# Altium integrated library Linear Technology Power Management uModule Regulators.IntLib: 166 symbols (part 45 of 67)
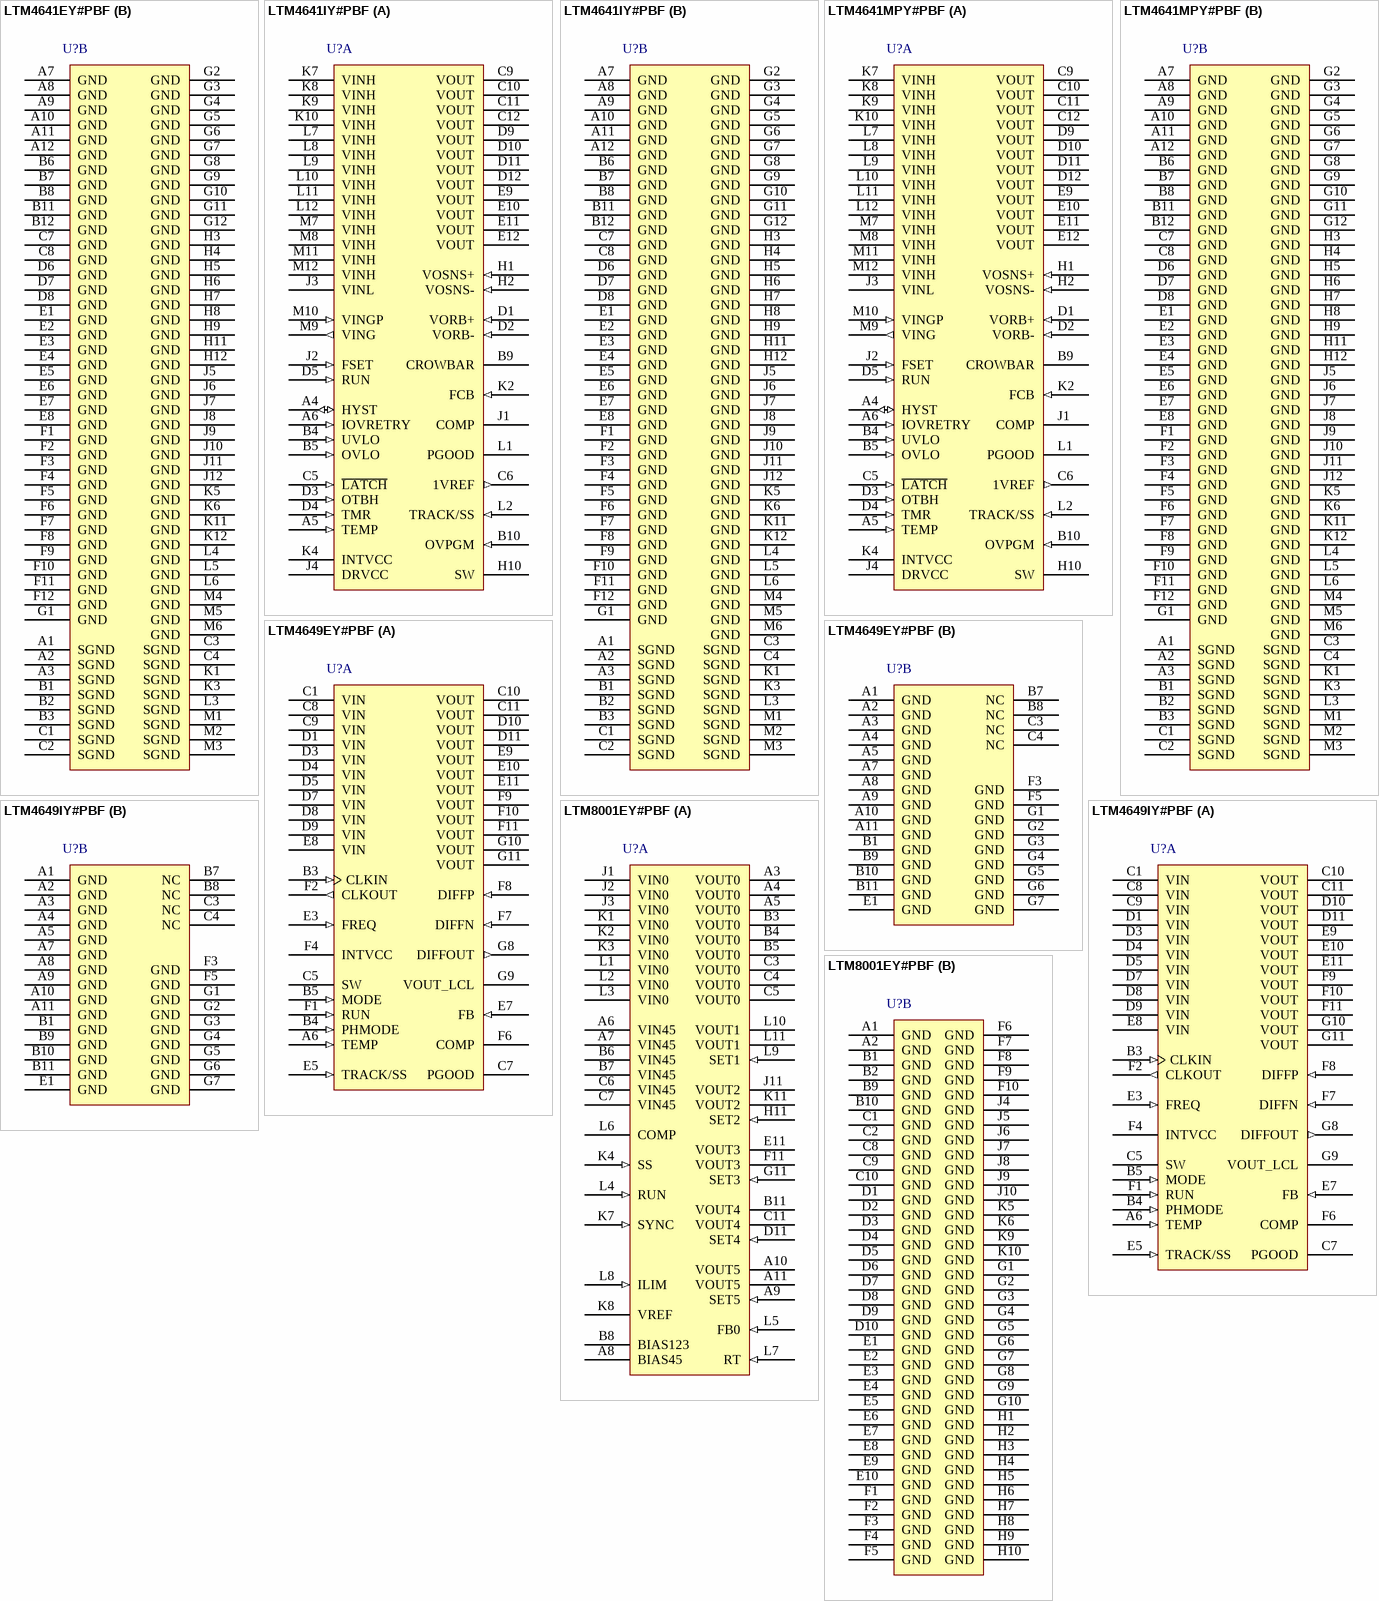
[diagram p71: symbols LTM4641EY#PBF to LTM8001EY#PBF]

## LTM4641MPY#PBF
designator U?
38 V, 10 A DC/DC uModule Regulator with Advanced Input and Load Protection, 144-pin BGA, -55 to 125 degC, Pb-Free, Tray; Manufacturer: Linear Technology; PartNumber: LTM4641MPY#PBF; Extended Temp: E, I, MP; Ishutdown(uA): 200; Isupply(mA): 14.5; Number of Outputs: 1; Output Current(A): 10; Switch Current(A): 15; Synchronous: yes; Topology: Buck; Vin Max(V): 38; Vin Min(V): 4.5; Vout Max(V): 6; Vout Min(V): 0.6; DatasheetVersion: Rev. C; PackageVersion: Rev. A, 01/2013; PackageReference: BGA-144; PackageDescription: 144-Ball BGA, Body 15 x15 mm, Pitch 1.27 mm; Supplier 1: Digi-Key; Supplier Part Number 1: LTM4641MPY#PBF-ND; Supplier 2: Newark; Supplier Part Number 2: 48W6443; Packing: Tray; RoHS: TRUE; Tracking: yes; Mounting Technology: Surface Mount; Code_JEDEC: MS-028; ComponentLink1Description: Manufacturer URL; ComponentLink1URL: http://www.linear.com/; ComponentLink2Description: Datasheet; ComponentLink2URL: http://cds.linear.com/docs/en/datasheet/4641fc.pdf; ComponentLink3Description: Package Specification; ComponentLink3URL: http://cds.linear.com/docs/en/packaging/05081914_A_bga144.pdf
footprint LT-BGA-144-05-08-1914 (BGA, 144-Balls, Body 15x15mm, Pitch 1.27mm)
part A pins: A4 HYST (io) "Input Undervoltage Hysteresis Programming Pin. Normally used as an output, but can be used as an input. If the LTM4641’s inherent, default undervoltage lockout (UVLO) settings are satisfactory, 4.5VIN(RISING, MAX) an(See Datasheet)", A5 TEMP (in) "Power Stage Temperature Indicator and Overtemperature Detection Pin. When left electrically open circuit, TEMP’s voltage varies according to an internal NTC (negative temperature coefficient) thermistor, residing in clos(See Datasheet)", A6 IOVRETRY (in) "Nonlatching Input Overvoltage Threshold Programming Pin. The LTM4641 pulls HYST low to inhibit regulation of its output voltage when IOVRETRY exceeds 0.5V. The LTM4641 can resume switching action when IOVRETRY is below 0.5V. (See Datasheet)", B4 UVLO (in) "Input Undervoltage Lockout Programming Pin. The LTM4641 pulls HYST low to inhibit regulation of its output voltage whenever UVLO is less than 0.5V. The LTM4641 can resume switching action when UVLO exceeds 0.5V. Do not leave (See Datasheet)", B5 OVLO (in) "Input Overvoltage Latchoff Programming Pin. LTM4641 pulls HYST low to inhibit regulation of its output voltage when OVLO exceeds 0.5V. If OVLO subsequently falls below 0.5V, the module’s output remains latched off; th(See Datasheet)", B9 CROWBAR (hiz) "Crowbar Output Pin. Normally logic low, with moderate pull-down strength to SGND.", B10 OVPGM (in) "Output Overvoltage Threshold Programming Pin. The voltage on this pin sets the trip threshold for the inverting input pin of LTM4641’s fast OOV comparator. When left electrically open circuit, resistors internal to th(See Datasheet)", C5 ~{LATCH} (in) "Latchoff Reset Pin. When a latchoff fault occurs, the LTM4641 turns off its output and latches MHYST on to indicate a fault condition has occurred (see HYST). To configure the LTM4641 for latched off response to latchoff (See Datasheet)", C6 1VREF (out) "Buffered 1V Reference Output Pin. Minimize capacitance on this pin, to assure the OVPGM and TEMP pins are operational in a timely manner at power-up. 1VREF should never be externally loaded except as explained in the (See Datasheet)", C9 VOUT (power) "Power Output Pins of the LTM4641 DC/DC Converter Power Stage. All VOUT pins are electrically connected to each other, internally. Apply output load between these pins and the GND pins. It is recommended to place output (See Datasheet)", C10 VOUT (power) "Power Output Pins of the LTM4641 DC/DC Converter Power Stage. All VOUT pins are electrically connected to each other, internally. Apply output load between these pins and the GND pins. It is recommended to place output (See Datasheet)", C11 VOUT (power) "Power Output Pins of the LTM4641 DC/DC Converter Power Stage. All VOUT pins are electrically connected to each other, internally. Apply output load between these pins and the GND pins. It is recommended to place output (See Datasheet)", C12 VOUT (power) "Power Output Pins of the LTM4641 DC/DC Converter Power Stage. All VOUT pins are electrically connected to each other, internally. Apply output load between these pins and the GND pins. It is recommended to place output (See Datasheet)", D1 VORB+ (in) "VOSNS + Readback Pin. This pin connects to VOSNS + internal to the uModule regulator. It is recommended to route this pin (differentially with VORB -) to a test point so as to allow the user a way to confirm the integrity of (See Datasheet)", D2 VORB- (in) "VOSNS - Readback Pin. This pin connects to VOSNS - internal to the uModule regulator. It is recommended to route this pin (differentially with VORB +) to a test point so as to allow the user a way to confirm the integrity of (See Datasheet)", D3 OTBH (in) "Overtemperature Behavior Programming Pin. When an overtemperature condition is detected (see TEMP), HYST pulls logic low to inhibit switching. If OTBH is connected to SGND, the LTM4641 latches HYST low. If OTBH is left (See Datasheet)", D4 TMR (in) "Timeout Delay Timer and Power-On Reset (POR) Programming Pin. Connect a capacitor (CTMR) from TMR to SGND to program the POR and timeout delay time of the LTM4641; 9ms delay time per nanofarad of capacitance. The minimum (See Datasheet)", D5 RUN (in) "Run (On/Off) Control Pin. A RUN pin voltage below 0.8V will turn off the module. A voltage above 2V will command the module to turn on, if HYST is not asserted low by MHYST. The LTM4641 contains a moderate (10k) pull-up (See Datasheet)", D9 VOUT (power) "Power Output Pins of the LTM4641 DC/DC Converter Power Stage. All VOUT pins are electrically connected to each other, internally. Apply output load between these pins and the GND pins. It is recommended to place output (See Datasheet)", D10 VOUT (power) "Power Output Pins of the LTM4641 DC/DC Converter Power Stage. All VOUT pins are electrically connected to each other, internally. Apply output load between these pins and the GND pins. It is recommended to place output (See Datasheet)", D11 VOUT (power) "Power Output Pins of the LTM4641 DC/DC Converter Power Stage. All VOUT pins are electrically connected to each other, internally. Apply output load between these pins and the GND pins. It is recommended to place output (See Datasheet)", D12 VOUT (power) "Power Output Pins of the LTM4641 DC/DC Converter Power Stage. All VOUT pins are electrically connected to each other, internally. Apply output load between these pins and the GND pins. It is recommended to place output (See Datasheet)", E9 VOUT (power) "Power Output Pins of the LTM4641 DC/DC Converter Power Stage. All VOUT pins are electrically connected to each other, internally. Apply output load between these pins and the GND pins. It is recommended to place output (See Datasheet)", E10 VOUT (power) "Power Output Pins of the LTM4641 DC/DC Converter Power Stage. All VOUT pins are electrically connected to each other, internally. Apply output load between these pins and the GND pins. It is recommended to place output (See Datasheet)", E11 VOUT (power) "Power Output Pins of the LTM4641 DC/DC Converter Power Stage. All VOUT pins are electrically connected to each other, internally. Apply output load between these pins and the GND pins. It is recommended to place output (See Datasheet)", E12 VOUT (power) "Power Output Pins of the LTM4641 DC/DC Converter Power Stage. All VOUT pins are electrically connected to each other, internally. Apply output load between these pins and the GND pins. It is recommended to place output (See Datasheet)", H1 VOSNS+ (in) "Positive Input to the Remote Sense Differential Amplifier. This pin connects to the positive side of the output voltage remote sense point (VOUT potential) via a resistor (RSET1A). When regulating the output voltage, the (See Datasheet)", H2 VOSNS- (in) "Negative Input to the Remote Sense Differential Amplifier. This pin connects to the negative side of the output voltage remote sense point (GND potential) via a resistor (RSET1B). When switching action is on, the LTM4641 (See Datasheet)", H10 SW "Switching Node of the Power Stage. Mainly used for testing purposes, however, one may optionally connect a snubber (series-configured capacitor CSW and resistor RSW) from SW to GND to reduce radiated EMI-in exchange for a (See Datasheet)", J1 COMP "Current Control Threshold and Error Amplifier Compensation Point. The current comparator threshold of LTM4641’s valley current mode control loop-and correspondingly, the commanded trough of the power inducto(See Datasheet)", J2 FSET (in) "Switching Frequency Setting and Adjustment Pin. This pin interfaces directly to the ION pin of LTM4641’s internal control IC. Current flow into the ION pin programs the on-time of the control loop’s one-shot timer (See Datasheet)", J3 VINL (power) "Input Voltage Pin, Low Current for Power Control and Logic Bias. Feeds LTM4641’s internal 5.3V LDO (see INTVCC). Apply input voltage bias between this pin and GND. Decouple to GND with a capacitor (0.1uF to 1uF). This pi(See Datasheet)", J4 DRVCC (power) "Power MOSFET Driver Input Power Pin. DRVCC is normally connected to INTVCC. It must be kept within two diode drops (2 x VBE or ~1.2V at 25degreesC) of INTVCC. DRVCC powers the internal MOSFET driver that interfaces to the (See Datasheet)", K2 FCB (in) "Forced Continuous/Pulse-Skipping Mode Operation Programming Pin. Connect this pin to SGND to force continuous mode operation of the synchronous power MOSFETs (MTOP and MBOT) at all output load conditions. Connect this pin to (See Datasheet)", K4 INTVCC (power) "Internal 5.3V LDO Output. LDO operates off of VINL. The INTVCC rail biases low power control and housekeeping circuitry. INTVCC is usually connected to DRVCC to power the MOSFET drivers interfacing to the switching power (See Datasheet)", K7 VINH (power) "Input Voltage Pin, High Current to the Power Converter Stage of the LTM4641. All VINH pins are electrically connected to each other internally. Devote a large copper plane to connect as many of the VINH pins to each other as (See Datasheet)", K8 VINH (power) "Input Voltage Pin, High Current to the Power Converter Stage of the LTM4641. All VINH pins are electrically connected to each other internally. Devote a large copper plane to connect as many of the VINH pins to each other as (See Datasheet)", K9 VINH (power) "Input Voltage Pin, High Current to the Power Converter Stage of the LTM4641. All VINH pins are electrically connected to each other internally. Devote a large copper plane to connect as many of the VINH pins to each other as (See Datasheet)", K10 VINH (power) "Input Voltage Pin, High Current to the Power Converter Stage of the LTM4641. All VINH pins are electrically connected to each other internally. Devote a large copper plane to connect as many of the VINH pins to each other as (See Datasheet)", L1 PGOOD (oc) "Output Voltage Power Good Indicator. This is an open-drain logic output pin that is pulled to ground when the output voltage (and accordingly, the divided-down representation of the output voltage, VFB, as presented to the (See Datasheet)", L2 TRACK/SS (in) "Output Voltage Tracking and Soft-Start SGND to obtain an output voltage soft-start ramp-up rate whose turn-on time is 0.6ms per nanofarad of capacitance. Alternatively, when a voltage is applied to TRACK/SS through a (See Datasheet)", L7 VINH (power) "Input Voltage Pin, High Current to the Power Converter Stage of the LTM4641. All VINH pins are electrically connected to each other internally. Devote a large copper plane to connect as many of the VINH pins to each other as (See Datasheet)", L8 VINH (power) "Input Voltage Pin, High Current to the Power Converter Stage of the LTM4641. All VINH pins are electrically connected to each other internally. Devote a large copper plane to connect as many of the VINH pins to each other as (See Datasheet)", L9 VINH (power) "Input Voltage Pin, High Current to the Power Converter Stage of the LTM4641. All VINH pins are electrically connected to each other internally. Devote a large copper plane to connect as many of the VINH pins to each other as (See Datasheet)", L10 VINH (power) "Input Voltage Pin, High Current to the Power Converter Stage of the LTM4641. All VINH pins are electrically connected to each other internally. Devote a large copper plane to connect as many of the VINH pins to each other as (See Datasheet)", L11 VINH (power) "Input Voltage Pin, High Current to the Power Converter Stage of the LTM4641. All VINH pins are electrically connected to each other internally. Devote a large copper plane to connect as many of the VINH pins to each other as (See Datasheet)", L12 VINH (power) "Input Voltage Pin, High Current to the Power Converter Stage of the LTM4641. All VINH pins are electrically connected to each other internally. Devote a large copper plane to connect as many of the VINH pins to each other as (See Datasheet)", M7 VINH (power) "Input Voltage Pin, High Current to the Power Converter Stage of the LTM4641. All VINH pins are electrically connected to each other internally. Devote a large copper plane to connect as many of the VINH pins to each other as (See Datasheet)", M8 VINH (power) "Input Voltage Pin, High Current to the Power Converter Stage of the LTM4641. All VINH pins are electrically connected to each other internally. Devote a large copper plane to connect as many of the VINH pins to each other as (See Datasheet)", M9 VING (out) "Gate Drive Output Pin. If utilizing the advanced output overvoltage (OOV) protection features of the LTM4641, connect VING to VINGP and to the gate of the external power-interrupt N-channel MOSFET feeding VINH, identified on (See Datasheet)", M10 VINGP (in) "Gate Drive Protection Pin. If utilizing the advanced OOV protection features of the LTM4641, connect VINGP to VING and to the gate of the external power-interrupt N-channel MOSFET feeding VINH, MSP; otherwise, leave this pin (See Datasheet)", M11 VINH (power) "Input Voltage Pin, High Current to the Power Converter Stage of the LTM4641. All VINH pins are electrically connected to each other internally. Devote a large copper plane to connect as many of the VINH pins to each other as (See Datasheet)", M12 VINH (power) "Input Voltage Pin, High Current to the Power Converter Stage of the LTM4641. All VINH pins are electrically connected to each other internally. Devote a large copper plane to connect as many of the VINH pins to each other as (See Datasheet)"
part B pins: A1 SGND (power) "Signal Ground Pins. This is the return ground path for all analog control and low power circuitry. SGND is tied to GND internal to the uModule regulator in a manner that promotes the best internal signal integrity-therefore, (See Datasheet)", A2 SGND (power) "Signal Ground Pins. This is the return ground path for all analog control and low power circuitry. SGND is tied to GND internal to the uModule regulator in a manner that promotes the best internal signal integrity-therefore, (See Datasheet)", A3 SGND (power) "Signal Ground Pins. This is the return ground path for all analog control and low power circuitry. SGND is tied to GND internal to the uModule regulator in a manner that promotes the best internal signal integrity-therefore, (See Datasheet)", A7 GND (power) "Power ground pins for input and output returns. See the Layout Checklist/Example section of the Applications Information section. All GND pins are electrically connected to each other, internally.", A8 GND (power) "Power ground pins for input and output returns. See the Layout Checklist/Example section of the Applications Information section. All GND pins are electrically connected to each other, internally.", A9 GND (power) "Power ground pins for input and output returns. See the Layout Checklist/Example section of the Applications Information section. All GND pins are electrically connected to each other, internally.", A10 GND (power) "Power ground pins for input and output returns. See the Layout Checklist/Example section of the Applications Information section. All GND pins are electrically connected to each other, internally.", A11 GND (power) "Power ground pins for input and output returns. See the Layout Checklist/Example section of the Applications Information section. All GND pins are electrically connected to each other, internally.", A12 GND (power) "Power ground pins for input and output returns. See the Layout Checklist/Example section of the Applications Information section. All GND pins are electrically connected to each other, internally.", B1 SGND (power) "Signal Ground Pins. This is the return ground path for all analog control and low power circuitry. SGND is tied to GND internal to the uModule regulator in a manner that promotes the best internal signal integrity-therefore, (See Datasheet)", B2 SGND (power) "Signal Ground Pins. This is the return ground path for all analog control and low power circuitry. SGND is tied to GND internal to the uModule regulator in a manner that promotes the best internal signal integrity-therefore, (See Datasheet)", B3 SGND (power) "Signal Ground Pins. This is the return ground path for all analog control and low power circuitry. SGND is tied to GND internal to the uModule regulator in a manner that promotes the best internal signal integrity-therefore, (See Datasheet)", B6 GND (power) "Power ground pins for input and output returns. See the Layout Checklist/Example section of the Applications Information section. All GND pins are electrically connected to each other, internally.", B7 GND (power) "Power ground pins for input and output returns. See the Layout Checklist/Example section of the Applications Information section. All GND pins are electrically connected to each other, internally.", B8 GND (power) "Power ground pins for input and output returns. See the Layout Checklist/Example section of the Applications Information section. All GND pins are electrically connected to each other, internally.", B11 GND (power) "Power ground pins for input and output returns. See the Layout Checklist/Example section of the Applications Information section. All GND pins are electrically connected to each other, internally.", B12 GND (power) "Power ground pins for input and output returns. See the Layout Checklist/Example section of the Applications Information section. All GND pins are electrically connected to each other, internally.", C1 SGND (power) "Signal Ground Pins. This is the return ground path for all analog control and low power circuitry. SGND is tied to GND internal to the uModule regulator in a manner that promotes the best internal signal integrity-therefore, (See Datasheet)", C2 SGND (power) "Signal Ground Pins. This is the return ground path for all analog control and low power circuitry. SGND is tied to GND internal to the uModule regulator in a manner that promotes the best internal signal integrity-therefore, (See Datasheet)", C3 SGND (power) "Signal Ground Pins. This is the return ground path for all analog control and low power circuitry. SGND is tied to GND internal to the uModule regulator in a manner that promotes the best internal signal integrity-therefore, (See Datasheet)", C4 SGND (power) "Signal Ground Pins. This is the return ground path for all analog control and low power circuitry. SGND is tied to GND internal to the uModule regulator in a manner that promotes the best internal signal integrity-therefore, (See Datasheet)", C7 GND (power) "Power ground pins for input and output returns. See the Layout Checklist/Example section of the Applications Information section. All GND pins are electrically connected to each other, internally.", C8 GND (power) "Power ground pins for input and output returns. See the Layout Checklist/Example section of the Applications Information section. All GND pins are electrically connected to each other, internally.", D6 GND (power) "Power ground pins for input and output returns. See the Layout Checklist/Example section of the Applications Information section. All GND pins are electrically connected to each other, internally.", D7 GND (power) "Power ground pins for input and output returns. See the Layout Checklist/Example section of the Applications Information section. All GND pins are electrically connected to each other, internally.", D8 GND (power) "Power ground pins for input and output returns. See the Layout Checklist/Example section of the Applications Information section. All GND pins are electrically connected to each other, internally.", E1 GND (power) "Power ground pins for input and output returns. See the Layout Checklist/Example section of the Applications Information section. All GND pins are electrically connected to each other, internally.", E2 GND (power) "Power ground pins for input and output returns. See the Layout Checklist/Example section of the Applications Information section. All GND pins are electrically connected to each other, internally.", E3 GND (power) "Power ground pins for input and output returns. See the Layout Checklist/Example section of the Applications Information section. All GND pins are electrically connected to each other, internally.", E4 GND (power) "Power ground pins for input and output returns. See the Layout Checklist/Example section of the Applications Information section. All GND pins are electrically connected to each other, internally.", E5 GND (power) "Power ground pins for input and output returns. See the Layout Checklist/Example section of the Applications Information section. All GND pins are electrically connected to each other, internally.", E6 GND (power) "Power ground pins for input and output returns. See the Layout Checklist/Example section of the Applications Information section. All GND pins are electrically connected to each other, internally.", E7 GND (power) "Power ground pins for input and output returns. See the Layout Checklist/Example section of the Applications Information section. All GND pins are electrically connected to each other, internally.", E8 GND (power) "Power ground pins for input and output returns. See the Layout Checklist/Example section of the Applications Information section. All GND pins are electrically connected to each other, internally.", F1 GND (power) "Power ground pins for input and output returns. See the Layout Checklist/Example section of the Applications Information section. All GND pins are electrically connected to each other, internally.", F2 GND (power) "Power ground pins for input and output returns. See the Layout Checklist/Example section of the Applications Information section. All GND pins are electrically connected to each other, internally.", F3 GND (power) "Power ground pins for input and output returns. See the Layout Checklist/Example section of the Applications Information section. All GND pins are electrically connected to each other, internally.", F4 GND (power) "Power ground pins for input and output returns. See the Layout Checklist/Example section of the Applications Information section. All GND pins are electrically connected to each other, internally.", F5 GND (power) "Power ground pins for input and output returns. See the Layout Checklist/Example section of the Applications Information section. All GND pins are electrically connected to each other, internally.", F6 GND (power) "Power ground pins for input and output returns. See the Layout Checklist/Example section of the Applications Information section. All GND pins are electrically connected to each other, internally.", F7 GND (power) "Power ground pins for input and output returns. See the Layout Checklist/Example section of the Applications Information section. All GND pins are electrically connected to each other, internally.", F8 GND (power) "Power ground pins for input and output returns. See the Layout Checklist/Example section of the Applications Information section. All GND pins are electrically connected to each other, internally.", F9 GND (power) "Power ground pins for input and output returns. See the Layout Checklist/Example section of the Applications Information section. All GND pins are electrically connected to each other, internally.", F10 GND (power) "Power ground pins for input and output returns. See the Layout Checklist/Example section of the Applications Information section. All GND pins are electrically connected to each other, internally.", F11 GND (power) "Power ground pins for input and output returns. See the Layout Checklist/Example section of the Applications Information section. All GND pins are electrically connected to each other, internally.", F12 GND (power) "Power ground pins for input and output returns. See the Layout Checklist/Example section of the Applications Information section. All GND pins are electrically connected to each other, internally.", G1 GND (power) "Power ground pins for input and output returns. See the Layout Checklist/Example section of the Applications Information section. All GND pins are electrically connected to each other, internally.", G2 GND (power) "Power ground pins for input and output returns. See the Layout Checklist/Example section of the Applications Information section. All GND pins are electrically connected to each other, internally.", G3 GND (power) "Power ground pins for input and output returns. See the Layout Checklist/Example section of the Applications Information section. All GND pins are electrically connected to each other, internally.", G4 GND (power) "Power ground pins for input and output returns. See the Layout Checklist/Example section of the Applications Information section. All GND pins are electrically connected to each other, internally.", G5 GND (power) "Power ground pins for input and output returns. See the Layout Checklist/Example section of the Applications Information section. All GND pins are electrically connected to each other, internally.", G6 GND (power) "Power ground pins for input and output returns. See the Layout Checklist/Example section of the Applications Information section. All GND pins are electrically connected to each other, internally.", G7 GND (power) "Power ground pins for input and output returns. See the Layout Checklist/Example section of the Applications Information section. All GND pins are electrically connected to each other, internally.", G8 GND (power) "Power ground pins for input and output returns. See the Layout Checklist/Example section of the Applications Information section. All GND pins are electrically connected to each other, internally.", G9 GND (power) "Power ground pins for input and output returns. See the Layout Checklist/Example section of the Applications Information section. All GND pins are electrically connected to each other, internally.", G10 GND (power) "Power ground pins for input and output returns. See the Layout Checklist/Example section of the Applications Information section. All GND pins are electrically connected to each other, internally.", G11 GND (power) "Power ground pins for input and output returns. See the Layout Checklist/Example section of the Applications Information section. All GND pins are electrically connected to each other, internally.", G12 GND (power) "Power ground pins for input and output returns. See the Layout Checklist/Example section of the Applications Information section. All GND pins are electrically connected to each other, internally.", H3 GND (power) "Power ground pins for input and output returns. See the Layout Checklist/Example section of the Applications Information section. All GND pins are electrically connected to each other, internally.", H4 GND (power) "Power ground pins for input and output returns. See the Layout Checklist/Example section of the Applications Information section. All GND pins are electrically connected to each other, internally.", H5 GND (power) "Power ground pins for input and output returns. See the Layout Checklist/Example section of the Applications Information section. All GND pins are electrically connected to each other, internally.", H6 GND (power) "Power ground pins for input and output returns. See the Layout Checklist/Example section of the Applications Information section. All GND pins are electrically connected to each other, internally.", H7 GND (power) "Power ground pins for input and output returns. See the Layout Checklist/Example section of the Applications Information section. All GND pins are electrically connected to each other, internally.", H8 GND (power) "Power ground pins for input and output returns. See the Layout Checklist/Example section of the Applications Information section. All GND pins are electrically connected to each other, internally.", H9 GND (power) "Power ground pins for input and output returns. See the Layout Checklist/Example section of the Applications Information section. All GND pins are electrically connected to each other, internally.", H11 GND (power) "Power ground pins for input and output returns. See the Layout Checklist/Example section of the Applications Information section. All GND pins are electrically connected to each other, internally.", H12 GND (power) "Power ground pins for input and output returns. See the Layout Checklist/Example section of the Applications Information section. All GND pins are electrically connected to each other, internally.", J5 GND (power) "Power ground pins for input and output returns. See the Layout Checklist/Example section of the Applications Information section. All GND pins are electrically connected to each other, internally.", J6 GND (power) "Power ground pins for input and output returns. See the Layout Checklist/Example section of the Applications Information section. All GND pins are electrically connected to each other, internally.", J7 GND (power) "Power ground pins for input and output returns. See the Layout Checklist/Example section of the Applications Information section. All GND pins are electrically connected to each other, internally.", J8 GND (power) "Power ground pins for input and output returns. See the Layout Checklist/Example section of the Applications Information section. All GND pins are electrically connected to each other, internally.", J9 GND (power) "Power ground pins for input and output returns. See the Layout Checklist/Example section of the Applications Information section. All GND pins are electrically connected to each other, internally.", J10 GND (power) "Power ground pins for input and output returns. See the Layout Checklist/Example section of the Applications Information section. All GND pins are electrically connected to each other, internally.", J11 GND (power) "Power ground pins for input and output returns. See the Layout Checklist/Example section of the Applications Information section. All GND pins are electrically connected to each other, internally.", J12 GND (power) "Power ground pins for input and output returns. See the Layout Checklist/Example section of the Applications Information section. All GND pins are electrically connected to each other, internally.", K1 SGND (power) "Signal Ground Pins. This is the return ground path for all analog control and low power circuitry. SGND is tied to GND internal to the uModule regulator in a manner that promotes the best internal signal integrity-therefore, (See Datasheet)", K3 SGND (power) "Signal Ground Pins. This is the return ground path for all analog control and low power circuitry. SGND is tied to GND internal to the uModule regulator in a manner that promotes the best internal signal integrity-therefore, (See Datasheet)", K5 GND (power) "Power ground pins for input and output returns. See the Layout Checklist/Example section of the Applications Information section. All GND pins are electrically connected to each other, internally.", K6 GND (power) "Power ground pins for input and output returns. See the Layout Checklist/Example section of the Applications Information section. All GND pins are electrically connected to each other, internally.", K11 GND (power) "Power ground pins for input and output returns. See the Layout Checklist/Example section of the Applications Information section. All GND pins are electrically connected to each other, internally.", K12 GND (power) "Power ground pins for input and output returns. See the Layout Checklist/Example section of the Applications Information section. All GND pins are electrically connected to each other, internally.", L3 SGND (power) "Signal Ground Pins. This is the return ground path for all analog control and low power circuitry. SGND is tied to GND internal to the uModule regulator in a manner that promotes the best internal signal integrity-therefore, (See Datasheet)", L4 GND (power) "Power ground pins for input and output returns. See the Layout Checklist/Example section of the Applications Information section. All GND pins are electrically connected to each other, internally.", L5 GND (power) "Power ground pins for input and output returns. See the Layout Checklist/Example section of the Applications Information section. All GND pins are electrically connected to each other, internally.", L6 GND (power) "Power ground pins for input and output returns. See the Layout Checklist/Example section of the Applications Information section. All GND pins are electrically connected to each other, internally.", M1 SGND (power) "Signal Ground Pins. This is the return ground path for all analog control and low power circuitry. SGND is tied to GND internal to the uModule regulator in a manner that promotes the best internal signal integrity-therefore, (See Datasheet)", M2 SGND (power) "Signal Ground Pins. This is the return ground path for all analog control and low power circuitry. SGND is tied to GND internal to the uModule regulator in a manner that promotes the best internal signal integrity-therefore, (See Datasheet)", M3 SGND (power) "Signal Ground Pins. This is the return ground path for all analog control and low power circuitry. SGND is tied to GND internal to the uModule regulator in a manner that promotes the best internal signal integrity-therefore, (See Datasheet)", M4 GND (power) "Power ground pins for input and output returns. See the Layout Checklist/Example section of the Applications Information section. All GND pins are electrically connected to each other, internally.", M5 GND (power) "Power ground pins for input and output returns. See the Layout Checklist/Example section of the Applications Information section. All GND pins are electrically connected to each other, internally.", M6 GND (power) "Power ground pins for input and output returns. See the Layout Checklist/Example section of the Applications Information section. All GND pins are electrically connected to each other, internally."

## LTM4649EY#PBF
designator U?
10 A Step-Down DC/DC uModule Regulator, 68-pin BGA, -40 to 125 degC, Pb-Free, Tray; Manufacturer: Linear Technology; PartNumber: LTM4649EY#PBF; Extended Temp: E, I; Frequency Sync Range: 250kHz - 800kHz; Frequency(kHz): 450; Ishutdown(uA): 70; Isupply(mA): 5; Number of Outputs: 1; Output Current(A): 10; Synchronous: yes; Topology: Buck; Vin Max(V): 16; Vin Min(V): 4.5; Vout Max(V): 3.3; Vout Min(V): 0.6; PackageVersion: Rev. A, 01/2013; PackageReference: BGA-68; PackageDescription: 68-Ball BGA, Body 15 x 9 mm, Pitch 1.27 mm; Supplier 1: Digi-Key; Supplier Part Number 1: LTM4649EY#PBF-ND; Supplier 2: Newark; Supplier Part Number 2: 94W8424; Packing: Tray; RoHS: TRUE; Tracking: yes; Mounting Technology: Surface Mount; Code_JEDEC: MS-028; ComponentLink1Description: Manufacturer URL; ComponentLink1URL: http://www.linear.com/; ComponentLink2Description: Datasheet; ComponentLink2URL: http://cds.linear.com/docs/en/datasheet/4649f.pdf; ComponentLink3Description: Package Specification; ComponentLink3URL: http://cds.linear.com/docs/en/packaging/05081892_A_bga68.pdf
footprint LT-BGA-68-15000X9000X4920 (BGA, 68-Balls, Body 15x9mm, Pitch 1.27mm)
part A pins: A6 TEMP (in) "Onboard Temperature Diode for Monitoring the VBE Junction Voltage Change with Temperature. See the Applications Information section.", B3 CLKIN (in) "External Synchronization Input to Phase Detector Pin. A clock on this pin will enable synchronization with forced continuous operation. See the Applications Information section.", B4 PHMODE (in) "This pin can be tied to GND, tied to INTVCC or left floating. This pin determines the relative phases between the internal controllers and the phasing of the CLKOUT signal. See Table 2 in the Operation section.", B5 MODE (in) "Mode Select Input. Connect this pin to INTVCC to enable Burst Mode operation. Connect to ground to enable forced continuous mode of operation. Floating this pin will enable pulse-skipping mode.", C1 VIN (power) "Power Input Pins. Apply input voltage between these pins and GND pins. Recommend placing input decoupling capacitance directly between VIN pins and GND pins.", C5 SW "Switching Node of the Circuit. This pin is used to check the switching frequency. Leave pin floating. A resistor-capacitor snubber can be placed from SW to PGND to eliminate high frequency switch node ringing. See the (See Datasheet)", C7 PGOOD (oc) "Output Voltage Power Good Indicator. Opendrain logic output that is pulled to ground when the output voltage is not within +/-10% of the regulation point.", C8 VIN (power) "Power Input Pins. Apply input voltage between these pins and GND pins. Recommend placing input decoupling capacitance directly between VIN pins and GND pins.", C9 VIN (power) "Power Input Pins. Apply input voltage between these pins and GND pins. Recommend placing input decoupling capacitance directly between VIN pins and GND pins.", C10 VOUT (power) "Power Output Pins. Apply output load between these pins and GND pins. Recommend placing output decoupling capacitance directly between these pins and GND pins.", C11 VOUT (power) "Power Output Pins. Apply output load between these pins and GND pins. Recommend placing output decoupling capacitance directly between these pins and GND pins.", D1 VIN (power) "Power Input Pins. Apply input voltage between these pins and GND pins. Recommend placing input decoupling capacitance directly between VIN pins and GND pins.", D3 VIN (power) "Power Input Pins. Apply input voltage between these pins and GND pins. Recommend placing input decoupling capacitance directly between VIN pins and GND pins.", D4 VIN (power) "Power Input Pins. Apply input voltage between these pins and GND pins. Recommend placing input decoupling capacitance directly between VIN pins and GND pins.", D5 VIN (power) "Power Input Pins. Apply input voltage between these pins and GND pins. Recommend placing input decoupling capacitance directly between VIN pins and GND pins.", D7 VIN (power) "Power Input Pins. Apply input voltage between these pins and GND pins. Recommend placing input decoupling capacitance directly between VIN pins and GND pins.", D8 VIN (power) "Power Input Pins. Apply input voltage between these pins and GND pins. Recommend placing input decoupling capacitance directly between VIN pins and GND pins.", D9 VIN (power) "Power Input Pins. Apply input voltage between these pins and GND pins. Recommend placing input decoupling capacitance directly between VIN pins and GND pins.", D10 VOUT (power) "Power Output Pins. Apply output load between these pins and GND pins. Recommend placing output decoupling capacitance directly between these pins and GND pins.", D11 VOUT (power) "Power Output Pins. Apply output load between these pins and GND pins. Recommend placing output decoupling capacitance directly between these pins and GND pins.", E3 FREQ (in) "Frequency Set Pin. A 10uA current is sourced from this pin. A resistor from this pin to ground sets a voltage, that in turn, programs the operating frequency. Alternatively, this pin can be driven with a DC voltage that can (See Datasheet)", E5 TRACK/SS (in) "Output Voltage Tracking Pin and Soft-Start Inputs. The pin has a 1.2uA pull-up current source. A capacitor from this pin to ground will set a soft-start ramp rate. In tracking, the regulator output can be tracked to a (See Datasheet)", E7 FB (in) "The Negative Input of the Error Amplifier. Internally, this pin is connected to VOUT_LCL with a 10k precision resistor. Different output voltages can be programmed with an additional resistor between VFB and ground pins. In (See Datasheet)", E8 VIN (power) "Power Input Pins. Apply input voltage between these pins and GND pins. Recommend placing input decoupling capacitance directly between VIN pins and GND pins.", E9 VOUT (power) "Power Output Pins. Apply output load between these pins and GND pins. Recommend placing output decoupling capacitance directly between these pins and GND pins.", E10 VOUT (power) "Power Output Pins. Apply output load between these pins and GND pins. Recommend placing output decoupling capacitance directly between these pins and GND pins.", E11 VOUT (power) "Power Output Pins. Apply output load between these pins and GND pins. Recommend placing output decoupling capacitance directly between these pins and GND pins.", F1 RUN (in) "Run Control Pin. A voltage above 1.25V will turn on the module. Each RUN pin has a 1uA pull-up current, once the RUN pin reaches 1.2V an additional 4.5uA pull-up current is added to this pin.", F2 CLKOUT (out) "Output Clock Signal for PolyPhase Operation. The phase of CLKOUT is determined by the state of the PHMODE pin.", F4 INTVCC (power) "Internal 5V LDO for Driving the Control Circuitry and the Power MOSFET Drivers. The 5V LDO has a 100mA current limit.", F6 COMP "Current Control Threshold and Error Amplifier Compensation Point. The current comparator threshold increases with this control voltage. Tie all COMP pins together in parallel operation.", F7 DIFFN (in) "Input to the Remote Sense Amplifier. This pin connects to the ground remote sense point. Connect to ground when not used.", F8 DIFFP (in) "Input to the Remote Sense Amplifier. This pin connects to the output remote sense point. Connect to ground when not used.", F9 VOUT (power) "Power Output Pins. Apply output load between these pins and GND pins. Recommend placing output decoupling capacitance directly between these pins and GND pins.", F10 VOUT (power) "Power Output Pins. Apply output load between these pins and GND pins. Recommend placing output decoupling capacitance directly between these pins and GND pins.", F11 VOUT (power) "Power Output Pins. Apply output load between these pins and GND pins. Recommend placing output decoupling capacitance directly between these pins and GND pins.", G8 DIFFOUT (out) "Output of the Remote Sense Amplifier. This pin connects to the VOUT_LCL pin for remote sense applications. Otherwise float when not used.", G9 VOUT_LCL "This pin is connected to the top of the internal top feedback resistor for the output. When the remote sense amplifier is used, connect the remote sense amplifier output DIFFOUT to VOUT_LCL to drive the 10k top feedback (See Datasheet)", G10 VOUT (power) "Power Output Pins. Apply output load between these pins and GND pins. Recommend placing output decoupling capacitance directly between these pins and GND pins.", G11 VOUT (power) "Power Output Pins. Apply output load between these pins and GND pins. Recommend placing output decoupling capacitance directly between these pins and GND pins."
part B pins: A1 GND (power) "Ground Pins for Both Input and Output Returns. All ground pins need to connect with large copper areas underneath the unit.", A2 GND (power) "Ground Pins for Both Input and Output Returns. All ground pins need to connect with large copper areas underneath the unit.", A3 GND (power) "Ground Pins for Both Input and Output Returns. All ground pins need to connect with large copper areas underneath the unit.", A4 GND (power) "Ground Pins for Both Input and Output Returns. All ground pins need to connect with large copper areas underneath the unit.", A5 GND (power) "Ground Pins for Both Input and Output Returns. All ground pins need to connect with large copper areas underneath the unit.", A7 GND (power) "Ground Pins for Both Input and Output Returns. All ground pins need to connect with large copper areas underneath the unit.", A8 GND (power) "Ground Pins for Both Input and Output Returns. All ground pins need to connect with large copper areas underneath the unit.", A9 GND (power) "Ground Pins for Both Input and Output Returns. All ground pins need to connect with large copper areas underneath the unit.", A10 GND (power) "Ground Pins for Both Input and Output Returns. All ground pins need to connect with large copper areas underneath the unit.", A11 GND (power) "Ground Pins for Both Input and Output Returns. All ground pins need to connect with large copper areas underneath the unit.", B1 GND (power) "Ground Pins for Both Input and Output Returns. All ground pins need to connect with large copper areas underneath the unit.", B7 NC "No Connection Pins. Either float these pins or connect them to GND for thermal purpose.", B8 NC "No Connection Pins. Either float these pins or connect them to GND for thermal purpose.", B9 GND (power) "Ground Pins for Both Input and Output Returns. All ground pins need to connect with large copper areas underneath the unit.", B10 GND (power) "Ground Pins for Both Input and Output Returns. All ground pins need to connect with large copper areas underneath the unit.", B11 GND (power) "Ground Pins for Both Input and Output Returns. All ground pins need to connect with large copper areas underneath the unit.", C3 NC "No Connection Pins. Either float these pins or connect them to GND for thermal purpose.", C4 NC "No Connection Pins. Either float these pins or connect them to GND for thermal purpose.", E1 GND (power) "Ground Pins for Both Input and Output Returns. All ground pins need to connect with large copper areas underneath the unit.", F3 GND (power) "Ground Pins for Both Input and Output Returns. All ground pins need to connect with large copper areas underneath the unit.", F5 GND (power) "Ground Pins for Both Input and Output Returns. All ground pins need to connect with large copper areas underneath the unit.", G1 GND (power) "Ground Pins for Both Input and Output Returns. All ground pins need to connect with large copper areas underneath the unit.", G2 GND (power) "Ground Pins for Both Input and Output Returns. All ground pins need to connect with large copper areas underneath the unit.", G3 GND (power) "Ground Pins for Both Input and Output Returns. All ground pins need to connect with large copper areas underneath the unit.", G4 GND (power) "Ground Pins for Both Input and Output Returns. All ground pins need to connect with large copper areas underneath the unit.", G5 GND (power) "Ground Pins for Both Input and Output Returns. All ground pins need to connect with large copper areas underneath the unit.", G6 GND (power) "Ground Pins for Both Input and Output Returns. All ground pins need to connect with large copper areas underneath the unit.", G7 GND (power) "Ground Pins for Both Input and Output Returns. All ground pins need to connect with large copper areas underneath the unit."